# Altium schematic symbol library TCN75.SchLib: 1 symbol
Pins are listed as number, name and electrical type; pins without a type are passive.

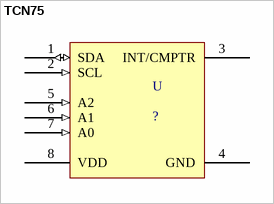
[diagram p0: symbol TCN75]

## TCN75
designator U, comment ?
pins: 1 SDA (io), 2 SCL (in), 3 INT/CMPTR, 4 GND, 5 A2 (in), 6 A1 (in), 7 A0 (in), 8 VDD